# Altium integrated library TS-115-G-AA.IntLib: 1 symbol
Pins are listed as number, name and electrical type; pins without a type are passive.

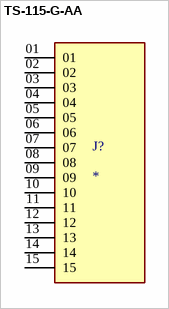
[diagram p0: symbol TS-115-G-AA]

## TS-115-G-AA
designator J?
MP: TS-115-G-AA; MF: Samtec; Value: *; Availability: Unavailable; Package: None; Price: None
footprint SAMTEC_TS-115-G-AA
pins: 01, 02, 03, 04, 05, 06, 07, 08, 09, 10, 11, 12, 13, 14, 15